# Altium integrated library C0402C241J3GAC7867.IntLib: 2 symbols
Pins are listed as number, name and electrical type; pins without a type are passive.

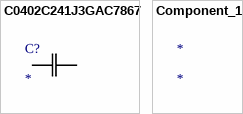
[diagram p0: symbols C0402C241J3GAC7867 to Component_1]

## C0402C241J3GAC7867
designator C?
Imported; Manufacturer_Part_Number: C0402C241J3GAC7867; Vendor: KEMET; Value: 240pF
footprint G-155
pins: 1, 2

## Component_1
designator *